# Altium schematic symbol library Disctrete.SchLib: 7 symbols
Pins are listed as number, name and electrical type; pins without a type are passive.

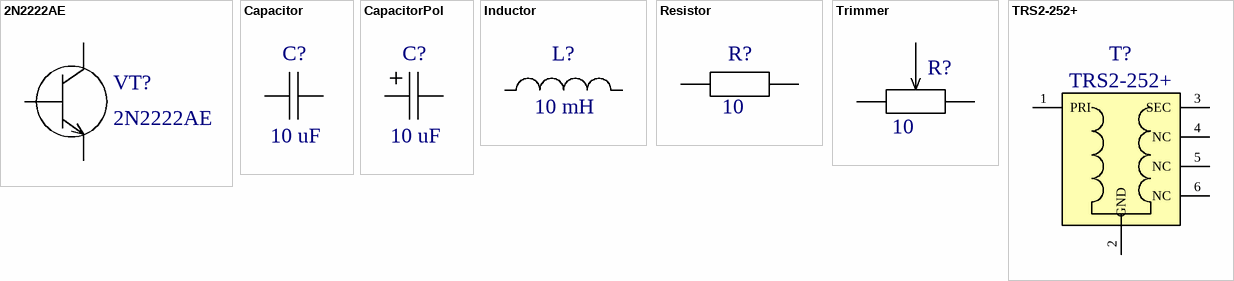
[diagram p0: symbols 2N2222AE to TRS2-252+]

## 2N2222AE
designator VT?
NPN Transistor, General Purpose Transistor; PartNumber: 2N2222AE
footprint TRXSOFL3P50_160X160X80L40X26 (Transistor, Small Outline Flat Lead (SOFL), 0.50 mm pitch; 3 pin, 1.60 mm L X 0.825 mm W X 0.80 mm H body)
pins: 1 B "base", 2 E "emitter", 3 C "collector"

## Capacitor
designator C?, comment 10 uF
Capacitor, generic; Value: 10 uF; PartNumber: *
footprint CAPC100X50X55L20N (Capacitor, Chip; 1.00 mm L X 0.50 mm W X 0.55 mm H body)
footprint CAPC160X80X90L30N (Capacitor, Chip; 1.60 mm L X 0.80 mm W X 0.90 mm H body)
footprint CAPC200X125X95L50N (Capacitor, Chip; 2.00 mm L X 1.25 mm W X 0.95 mm H body)
pins: 1, 2

## CapacitorPol
designator C?, comment 10 uF
Capacitor, Pol, generic; Value: 10 uF; PartNumber: *
footprint CAPPM320X160X180L80X120N (Capacitor, Polarized, Molded Body; 2.60 mm L X 1.60 mm W X 1.80 mm H body)
footprint CAPPM350X280X210L80X220N (Capacitor, Polarized, Molded Body; 2.90 mm L X 2.80 mm W X 2.10 mm H body)
pins: 1, 2

## Inductor
designator L?, comment 10 mH
Inductor, generic; Value: 10 mH; PartNumber: *
footprint INDC160X80X100L30N (Inductor, Chip; 1.60 mm L X 0.80 mm W X 1.00 mm H body)
footprint INDC200X120X140L50N (Inductor, Chip; 2.00 mm L X 1.20 mm W X 1.40 mm H body)
footprint INDC320X160X130L50N (Inductor, Chip; 3.20 mm L X 1.60 mm W X 1.30 mm H body)
pins: 1, 2

## Resistor
designator R?, comment 10
Resistor, generic; Value: 10; PartNumber: *
footprint RESC100X50X40L25N (Resistor, Chip; 1.00 mm L X 0.50 mm W X 0.40 mm H body)
footprint RESC160X80X60L30N (Resistor, Chip; 1.60 mm L X 0.80 mm W X 0.60 mm H body)
footprint RESC200X125X65L40N (Resistor, Chip; 2.00 mm L X 1.25 mm W X 0.65 mm H body)
pins: 1, 2

## Trimmer
designator R?, comment 10
Resistor, trimmer; Value: 10; PartNumber: *
footprint bourns_TC33X-1 (Trimmer Potenciometer, Bourns,  3.6 mm X 3.8 mm X 1.2 mm)
pins: 1, 2, 3

## TRS2-252+
designator T?
PartNumber: TRS2-252+
footprint AT577 (Open style, ceramic base)
pins: 1 PRI, 2 GND, 3 SEC, 4 NC, 5 NC, 6 NC